# Altium footprint library Footprint_Library.PcbLib: 29 footprints (part 1 of 2)
Each footprint in its own frame and in the unit in brackets; x right, y up, seen from the top. Pads: shape width x height; smd on the part's side, far side on the other; paste and mask are expansions set on the pad; w line width, h text height; cw(c..) or ccw(c..) is an arc to the next point about the centre after c.
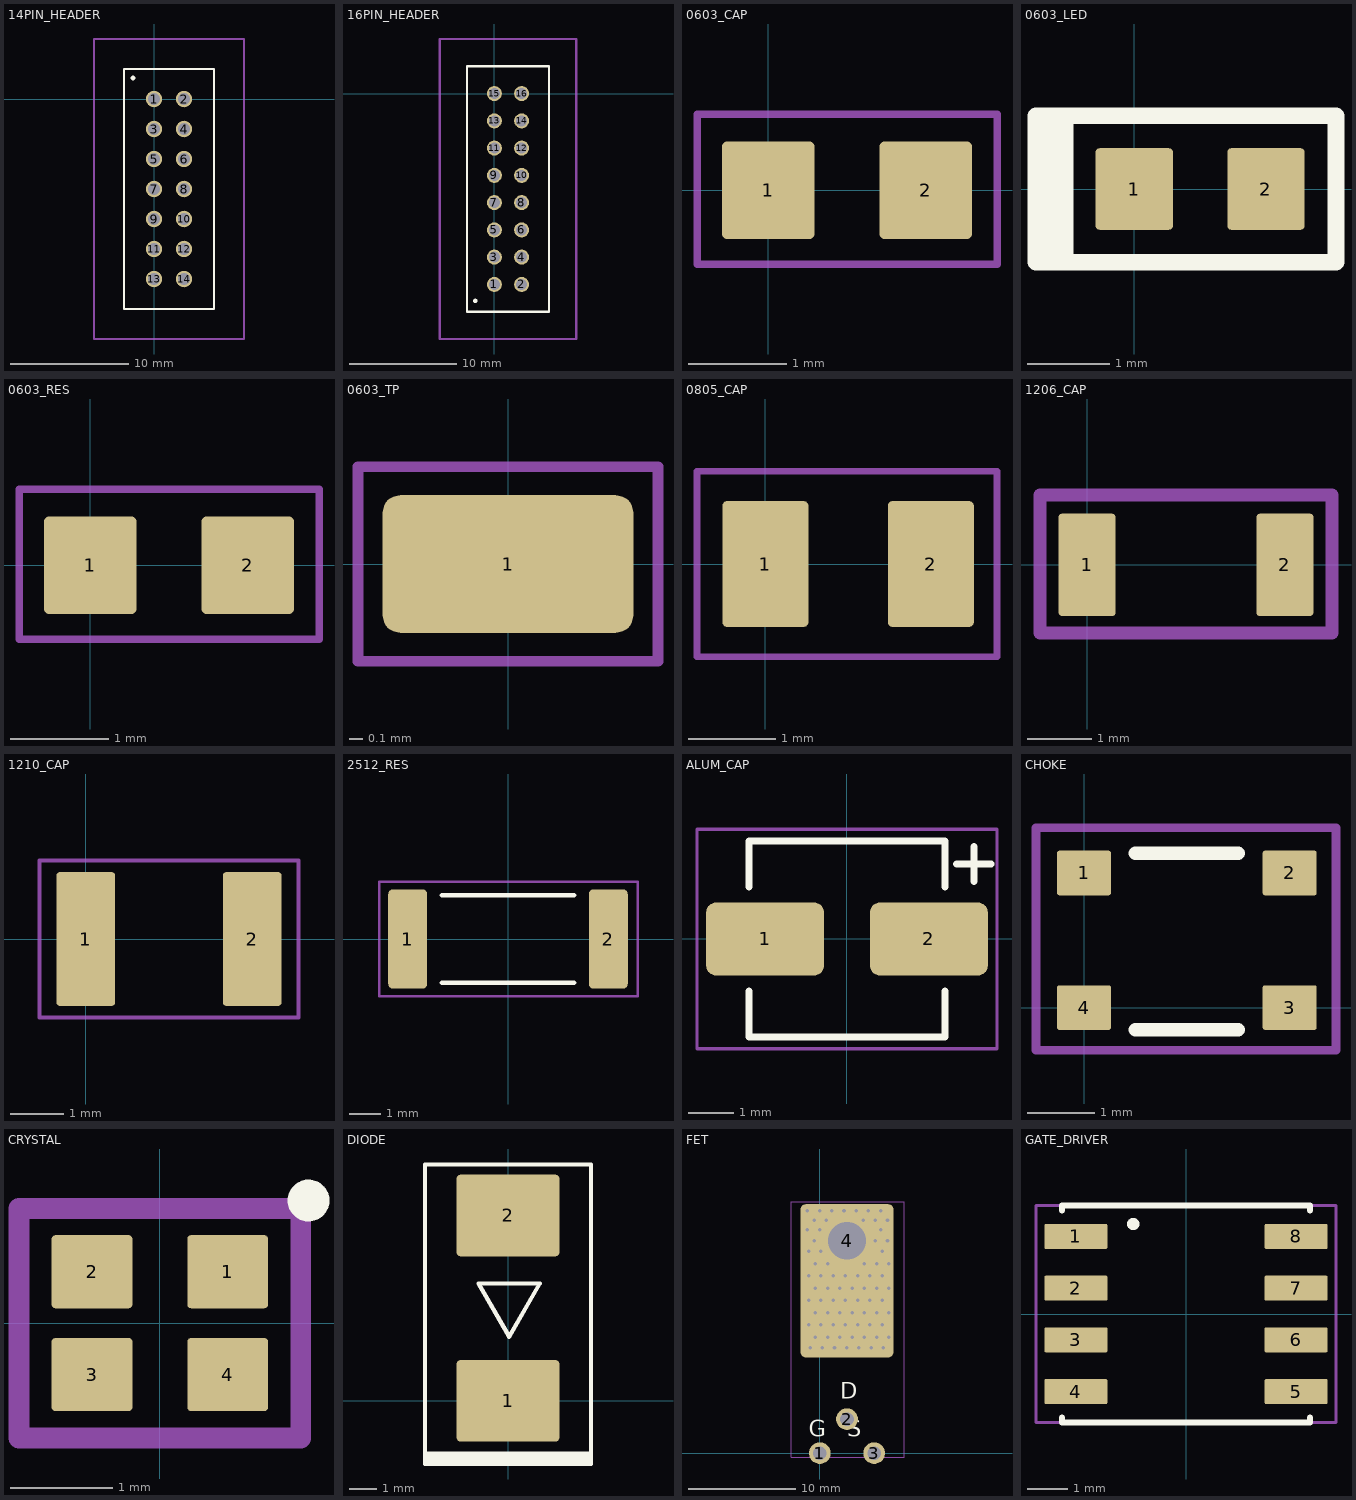
[diagram p0: the footprints below, top view; thin cyan lines are the x and y axes]

## 14PIN_HEADER [mil] "14-Pin TI JTAG Header Footprint"
pads (14):
  round 55 hole 40: 1(0,0) 2(100,0) 3(0,-100) 4(100,-100) 5(0,-200) 6(100,-200) 7(0,-300) 8(100,-300) 9(0,-400) 10(100,-400) 11(0,-500) 12(100,-500) 13(0,-600) 14(100,-600)
Top Overlay:
  circle w7.87: c-70,70 r3.94
  lines w8: -100,-700 200,-700 200,100 -100,100 -100,-700
Mechanical 2:
  lines w8: -200,-800 300,-800 300,200 -200,200 -200,-800
3D body "2x7_14pin_header.step": height 336.22, standoff -118.11, extent -50,-650 150,50

## 16PIN_HEADER [mil] "16-Pin SBL2e NetBurner Header Footprint"
pads (16):
  round 55 hole 40: 1(0,-700) 2(100,-700) 3(0,-600) 4(100,-600) 5(0,-500) 6(100,-500) 7(0,-400) 8(100,-400) 9(0,-300) 10(100,-300) 11(0,-200) 12(100,-200) 13(0,-100) 14(100,-100) 15(0,0) 16(100,0)
Top Overlay:
  circle w7.87: c-70,-760 r3.94
  lines w8: -100,-800 200,-800 200,100 -100,100 -100,-800
Mechanical 2:
  lines w8: -200,-900 300,-900 300,200 -200,200 -200,-900
3D body "2x8_16pin_header.STEP": height 338.1, standoff -129.07, extent -44.88,-746.46 150,46.46

## 0603_CAP [mil] "SMD 0603 Capacitor Footprint"
height 32
pads (2):
  rrect10% 37x39 smd: 1(0,0) 2(63,0)
Mechanical 1:
  lines w3: -28.5,-29.5 91.5,-29.5 91.5,30.5 -28.5,30.5 -28.5,-29.5
3D body "0603_cap.step": height 32, standoff 0.5, extent 0,-15.5 63,16

## 0603_LED [mil] "SMD 0603 LED Footprint"
height 32
pads (2):
  rrect10% 37x39 smd: 1(0,0) 2(63,0)
Top Overlay:
  rectangle: -46,-34 -35,35
  lines w8: -47,-35 -33,-35 -33,35 -47,35 -47,-35 ; -33.5,-35 96.5,-35 96.5,35 -33.5,35 -33.5,-35
3D body "0603_led.step": height 43.31, standoff 0, extent 0,-15.75 63,15.75

## 0603_RES [mil] "SMD 0603 Resistor Footprint"
height 20
pads (2):
  rrect10% 37x39 smd: 1(0,0) 2(63,0)
Mechanical 1:
  lines w3: -28.5,-29.5 91.5,-29.5 91.5,30.5 -28.5,30.5 -28.5,-29.5
3D body "0603_res.step": height 17.72, standoff 0, extent 0,-15.75 63,15.75

## 0603_TP [mil] "0603 Test Point Footprint"
height 45
pads (1):
  rrect25% 71x39 smd: 1(0,0)
Mechanical 1:
  lines w3: -42.5,-27.5 42.5,-27.5 42.5,27.5 -42.5,27.5 -42.5,-27.5
3D body "0603_tp.stp": height 46.96, standoff 0.5, extent -31.5,-15.75 31.5,15.75

## 0805_CAP [mil] "SMD 0805 Capacitor Footprint"
height 57
pads (2):
  rrect10% 39x57 smd: 1(0,0) 2(75,0)
Mechanical 1:
  lines w3: -31,-42 105,-42 105,42 -31,42 -31,-42
3D body "0805_cap.step": height 49.21, standoff 0, extent -1.87,-24.61 76.87,24.61

## 1206_CAP [mil] "1206 SMD Capacitor Footprint"
height 35
pads (2):
  rrect10% 35x63 smd: 1(0,0) 2(122,0)
Mechanical 1:
  lines w8: -29,-42 151,-42 151,43 -29,43 -29,-42
3D body "1206_cap.STEP": height 61.92, standoff -1.07, extent -1.99,-30.99 123.99,32

## 1210_CAP [mil] "1210 SMD Capacitor Footprint"
height 112
pads (2):
  rrect10% 43x98 smd: 1(0,0) 2(122,0)
Mechanical 1:
  lines w3: -34,-57.5 156,-57.5 156,57.5 -34,57.5 -34,-57.5
3D body "1210_cap.step": height 98.43, standoff 0, extent -1.99,-49.21 123.99,49.21

## 2512_RES [mil] "2512 Resistor Footprint"
pads (2):
  rrect25% 49x125 smd: 1(-126,0) 2(126,0)
Top Overlay:
  lines w6: -83,-55 83,-55 ; -83,55 83,55
Mechanical 1:
  lines w3: -162,-72 163,-72 163,72 -162,72 -162,-72
3D body "2512_res.step": height 23.62, standoff 0, extent -125.02,-62.99 123.02,62.99

## ALUM_CAP [mil] "25 V Aluminum Electrolytic Cap"
height 217
pads (2):
  rrect25% 102x63 smd: 1(-71,0) 2(71,0)
Top Overlay:
  lines w6: -85,-45 -85,-85 85,-85 85,-45 ; -85,45 -85,85 85,85 85,45 ; 95,65 125,65 ; 110,50 110,80
Mechanical 1:
  lines w3: -130,-95 130,-95 130,95 -130,95 -130,-95
3D body "alum_cap.step": height 212.6, standoff 0, extent -108.27,-84.29 108.27,85

## CHOKE [mil] "Common Mode Choke Footprint Horizontal 4"
height 79
pads (4):
  rrect10% 31.5x26 smd: 1(0,78.5) 2(120,78.5) 3(120,0) 4(0,0)
Top Overlay:
  lines w8: 30,-13 90,-13 ; 30,90 90,90
Mechanical 1:
  lines w5: -28,-25 147,-25 147,105 -28,105 -28,-25
3D body "choke.stp": height 73.43, standoff -0.79, extent -4.75,-10.34 125.93,88.4

## CRYSTAL [mil] "Crystal Oscillator Footprint"
height 31
pads (4):
  rrect10% 31x28 smd: 1(26,19.7) 2(-26,19.7) 3(-26,-19.7) 4(26,-19.7)
Top Overlay:
  circle w8: c57,47 r4
Mechanical 1:
  lines w8: -54,-44 54,-44 54,44 -54,44 -54,-44
3D body "oscillator.STEP": height 31.5, standoff 0, extent -38.37,-31.5 40.37,31.5

## DIODE [mil] "Diode Footprint SMC"
height 103
pads (2):
  rrect10% 150x119 smd: 1(0,0) 2(0,270)
Top Overlay:
  rectangle: -121,-92 120,-79
  lines w6: 1.39,94 -43.05,170.97 46.5,170.97 1.5,93.03 ; -121,-92 121,-92 121,-79 -121,-79 -121,-92 ; -121,-77 121,-77 121,344 -121,344 -121,-77
Mechanical 1:
  lines w3: -121,-83 -121,344 121,344 121,-83 -121,-83
3D body "diode_new2.step": height 90.94, standoff 0, extent -116.14,-21.48 116.14,293.48

## FET [mil] "Power FET Footprint"
height 39
pads (79):
  round 80 hole 50: 1(0,0) 2(100,125) 3(200,0)
  round 25 hole 13 paste+0 mask+4: 4(-46,822) 4(-46,892) 4(-41,472) 4(-41,562) 4(-41,652) 4(-41,742) 4(-36,387) 4(-21,782) 4(-21,857) 4(-16,427) 4(-16,517) 4(-16,607) 4(-16,697) 4(-1,822) 4(-1,892) 4(4,472) 4(4,562) 4(4,652) 4(4,742) 4(9,387) 4(24,857) 4(29,427) 4(29,517) 4(29,607) 4(29,697) 4(44,892) 4(49,472) 4(49,562) 4(49,652) 4(54,387) 4(74,427) 4(74,517) 4(74,607) 4(89,892) 4(94,472) 4(94,562) 4(94,652) 4(99,387) 4(119,427) 4(119,517) 4(119,607) 4(134,892) 4(139,472) 4(139,562) 4(139,652) 4(144,387) 4(159,857) 4(164,427) 4(164,517) 4(164,607) 4(164,697) 4(179,892) 4(184,472) 4(184,562) 4(184,652) 4(189,387) 4(204,782) 4(204,857) 4(209,427) 4(209,517) 4(209,607) 4(209,697) 4(224,822) 4(224,892) 4(229,472) 4(229,562) 4(229,652) 4(229,742) 4(234,387) 4(249,782) 4(249,857) 4(254,427) 4(254,517) 4(254,607) 4(254,697)
  rrect10% 341x563 hole 138 copper offset 0,-148 paste+100: 4(100,782)
Top Overlay:
  text "D" at 75,200 h60
  text "G   S" at -40,60 h60
Top Paste:
  rectangle: -67,356 268,914
  lines w10: -70,371 ccw(c-52,371) -52,353 253,353 ccw(c253,371) 271,371 271,898 ccw(c253,898) 253,916 -52,916 ccw(c-52,898) -70,898 -70,371
Mechanical 1:
  lines w3: -105,-15 310,-15 310,925 -105,925 -105,-15
3D body "fet.STEP": height 181.1, standoff -196.85, extent -104.72,-10.43 304.72,920.67

## GATE_DRIVER [mil] "Isolated Gate Driver Footprint 8-SOIC"
height 69
pads (8):
  rrect10% 61x24 smd: 1(-106.5,75) 2(-106.5,25) 3(-106.5,-25) 4(-106.5,-75) 5(106.5,-75) 6(106.5,-25) 7(106.5,25) 8(106.5,75)
Top Overlay:
  lines w6: -120,-100 -120,-105 120,-105 120,-100 ; -120,100 -120,105 120,105 120,100
  lines w10: -50,87 cw(c-51,87) -50.02,87.2
Mechanical 1:
  lines w3: -145,-105 145,-105 145,105 -145,105 -145,-105
3D body "gate_driver.step": height 69, standoff 0, extent -118,-96.5 118,96.5